# EAGLE library part 62674-331121ALF (library FCI_By_element14_Batch_1)
CONN FPC/FFC 33POS .5MM VERT SMD
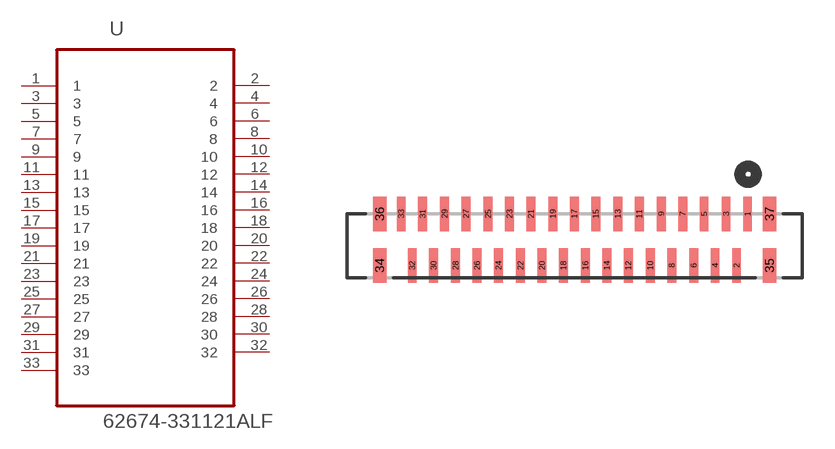
[diagram p13: symbol with the pads of FCI_62674-331121ALF; footprint FCI_62674-331121ALF]

Designator prefix U

## 62674-331121ALF (MPN: 62674-331121ALF; OC_FARNELL: 1830634; OC_NEWARK: 95M3086; PACKAGE: CONN -33POS; SUPPLIER: FCI)  [FCI_62674-331121ALF]
1  1  pas
2  2  pas
3  3  pas
4  4  pas
5  5  pas
6  6  pas
7  7  pas
8  8  pas
9  9  pas
10  10  pas
11  11  pas
12  12  pas
13  13  pas
14  14  pas
15  15  pas
16  16  pas
17  17  pas
18  18  pas
19  19  pas
20  20  pas
21  21  pas
22  22  pas
23  23  pas
24  24  pas
25  25  pas
26  26  pas
27  27  pas
28  28  pas
29  29  pas
30  30  pas
31  31  pas
32  32  pas
33  33  pas

## Footprint FCI_62674-331121ALF (pad centres in mm)
smd 0.406 x 1.6: 1 0,4.775; 2 -0.508,2.388; 3 -0.991,4.775; 4 -1.499,2.388; 5 -2.007,4.775; 6 -2.489,2.388; 7 -2.997,4.775; 8 -3.505,2.388; 9 -3.988,4.775; 10 -4.496,2.388; 11 -5.004,4.775; 12 -5.512,2.388; 13 -5.994,4.775; 14 -6.502,2.388; 15 -7.01,4.775; 16 -7.493,2.388; 17 -8.001,4.775; 18 -8.509,2.388; 19 -8.992,4.775; 20 -9.5,2.388; 21 -10.008,4.775; 22 -10.49,2.388; 23 -10.998,4.775; 24 -11.506,2.388; 25 -11.989,4.775; 26 -12.497,2.388; 27 -13.005,4.775; 28 -13.487,2.388; 29 -13.995,4.775; 30 -14.503,2.388; 31 -15.011,4.775; 32 -15.494,2.388; 33 -16.002,4.775
smd 0.61 x 1.6: 34 -16.993,2.388; 35 1.016,2.388; 36 -16.993,4.775; 37 1.016,4.775